# EAGLE library part 13PIN (library jst_eph)
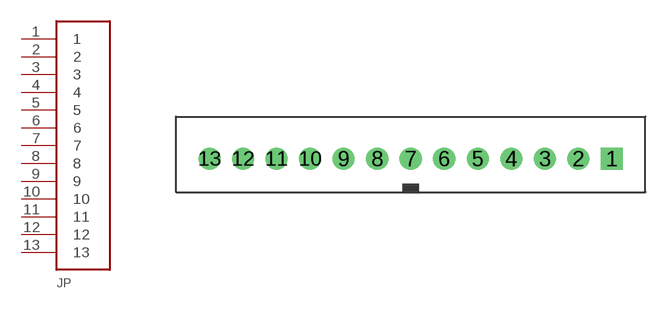
[diagram p7: symbol with the pads of B13B-PH-K-S; footprint B13B-PH-K-S]

Designator prefix JP

## 13PIN  [B13B-PH-K-S]
1  1
2  2
3  3
4  4
5  5
6  6
7  7
8  8
9  9
10  10
11  11
12  12
13  13

## Footprint B13B-PH-K-S (pad centres in mm)
drill 0.813 square: 1 12,0
drill 0.813: 2 10,0; 3 8,0; 4 6,0; 5 4,0; 6 2,0; 7 0,0; 8 -2,0; 9 -4,0; 10 -6,0; 11 -8,0; 12 -10,0; 13 -12,0